# Altium footprint library PowerMeter.PcbLib: 55 footprints (part 2 of 4)
Each footprint in its own frame and in the unit in brackets; x right, y up, seen from the top. Pads: shape width x height; smd on the part's side, far side on the other; paste and mask are expansions set on the pad; w line width, h text height; cw(c..) or ccw(c..) is an arc to the next point about the centre after c.
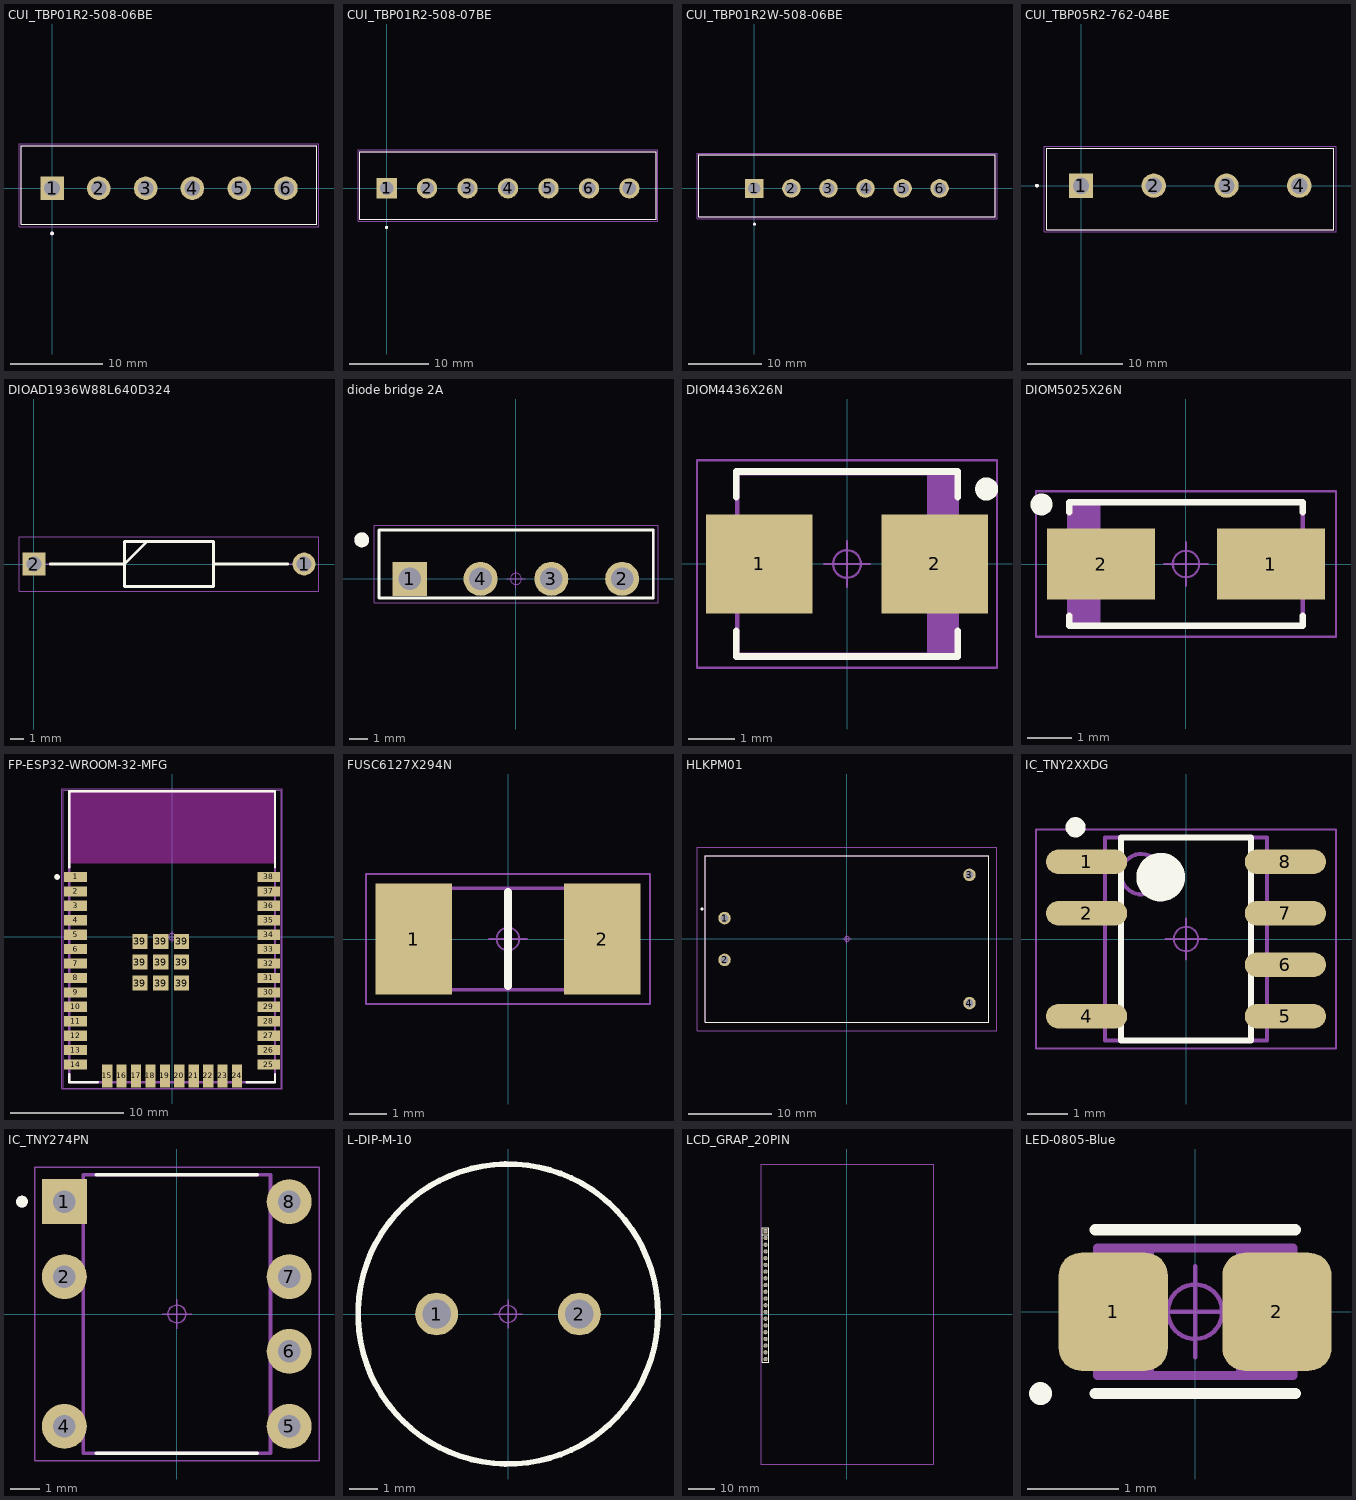
[diagram p1: the footprints below, top view; thin cyan lines are the x and y axes]

## CUI_TBP01R2-508-06BE [mm]
pads (6):
  rect 2.55x2.55 / inner round 2.55 / far side rect 2.55x2.55 hole 1.7: 1(0,0)
  round 2.55 hole 1.7: 2(5.08,0) 3(10.16,0) 4(15.24,0) 5(20.32,0) 6(25.4,0)
Top Overlay:
  circle w0.2: c0,-4.9 r0.1
  lines w0.127: -3.34,-3.9 -3.34,4.6 28.74,4.6 28.74,-3.9 -3.34,-3.9
Top Assembly:
  lines w0.127: -3.34,-3.9 28.74,-3.9 28.74,4.6 -3.34,4.6 -3.34,-3.9
  text "'.Designator'" at 5.2,-1.2 h1.52
Top Courtyard:
  lines w0.05: -3.59,-4.15 28.99,-4.15 28.99,4.85 -3.59,4.85 -3.59,-4.15
Mechanical 13:
  circle w0.2: c0,-4.9 r0.1
3D body "step_temp.STEP": height 12.1, standoff -3.9, extent -3.34,-3.9 28.74,4.6

## CUI_TBP01R2-508-07BE [mm]
pads (7):
  rect 2.55x2.55 / inner round 2.55 / far side rect 2.55x2.55 hole 1.7: 1(0,0)
  round 2.55 hole 1.7: 2(5.08,0) 3(10.16,0) 4(15.24,0) 5(20.32,0) 6(25.4,0) 7(30.48,0)
Top Overlay:
  circle w0.2: c0,-4.9 r0.1
  lines w0.127: -3.34,-3.9 33.82,-3.9 33.82,4.6 -3.34,4.6 -3.34,-3.9
Top Assembly:
  lines w0.127: -3.34,-3.9 33.82,-3.9 33.82,4.6 -3.34,4.6 -3.34,-3.9
  text "'.Designator'" at 9,-1 h1.52
Top Courtyard:
  lines w0.05: -3.59,-4.15 34.07,-4.15 34.07,4.85 -3.59,4.85 -3.59,-4.15
Mechanical 13:
  circle w0.2: c0,-4.9 r0.1
3D body "step_temp.STEP": height 12.1, standoff -3.9, extent -3.36,-3.85 33.8,4.65

## CUI_TBP01R2W-508-06BE [mm]
pads (6):
  rect 2.55x2.55 / inner round 2.55 / far side rect 2.55x2.55 hole 1.7: 1(0,0)
  round 2.55 hole 1.7: 2(5.08,0) 3(10.16,0) 4(15.24,0) 5(20.32,0) 6(25.4,0)
Top Overlay:
  circle w0.2: c0,-4.9 r0.1
  lines w0.127: -7.62,-3.9 -7.62,4.6 33.02,4.6 33.02,-3.9 -7.62,-3.9
Top Assembly:
  lines w0.127: -7.62,-3.9 33.02,-3.9 33.02,4.6 -7.62,4.6 -7.62,-3.9
  text "'.Designator'" at 5,-1 h1.52
Top Courtyard:
  lines w0.05: -7.87,-4.15 33.27,-4.15 33.27,4.85 -7.87,4.85 -7.87,-4.15
Mechanical 13:
  circle w0.2: c0,-4.9 r0.1
3D body "step_temp.STEP": height 12.1, standoff -3.9, extent -7.64,-3.9 33,4.6

## CUI_TBP05R2-762-04BE [mm]
height 12.5
pads (4):
  rect 2.55x2.55 / inner round 2.55 / far side rect 2.55x2.55 hole 1.7: 1(0,0)
  round 2.55 hole 1.7: 2(7.62,0) 3(15.24,0) 4(22.86,0)
Top Overlay:
  circle w0.2: c-4.62,0 r0.1
  lines w0.127: -3.6,-4.6 -3.6,3.9 26.46,3.9 26.46,-4.6 -3.6,-4.6
Top Assembly:
  lines w0.127: -3.6,-4.6 26.46,-4.6 26.46,3.9 -3.6,3.9 -3.6,-4.6
  text "'.Designator'" at 3.5,-1 h1.52
Top Courtyard:
  lines w0.05: -3.85,-4.85 26.71,-4.85 26.71,4.15 -3.85,4.15 -3.85,-4.85
Mechanical 13:
  circle w0.2: c-4.62,0 r0.1
3D body "step_temp.STEP": height 12, standoff -4, extent -3.66,-4.6 26.4,3.9

## DIOAD1936W88L640D324 [mm]
pads (2):
  round 1.65 hole 1.1: 1(19.4,0)
  rect 1.65x1.65 hole 1.1: 2(0,0)
Top Overlay:
  lines w0.2: 1.175,0 6.5,0 8.12,1.62 ; 12.9,0 18.225,0 ; 6.5,-1.62 12.9,-1.62 12.9,1.62 6.5,1.62 6.5,-1.62
Top Assembly:
  lines w0.1: 0,0 6.5,0 8.12,1.62 ; 12.9,0 19.4,0 ; 6.5,-1.62 6.5,1.62 12.9,1.62 12.9,-1.62 6.5,-1.62
  text "'.Designator'" at 1,-1.5 h1.52
Top Courtyard:
  lines w0.05: -1.075,-1.97 20.475,-1.97 20.475,1.97 -1.075,1.97 -1.075,-1.97
3D body "P6KE180A.stp": height 3.38, standoff -3.2, extent -0.38,-1.608 19.78,1.608

## diode bridge 2A [mm]
pads (4):
  rect 1.83x1.83 / inner round 1.83 / far side rect 1.83x1.83 hole 1.22: 1(-5.715,0)
  round 1.83 hole 1.22: 2(5.715,0) 3(1.905,0) 4(-1.905,0)
Top Overlay:
  circle w0.4: c-8.3,2.1 r0.2
  lines w0.15: -7.365,-1.03 -7.365,2.63 7.395,2.63 7.395,-1.03 -7.365,-1.03
Top Assembly:
  lines w0.1: -7.365,-1.03 -7.365,2.63 7.395,2.63 7.395,-1.03 -7.365,-1.03
  text "'.Designator'" at -4.8,-1.4 h1.52
Top Courtyard:
  lines w0.05: -7.615,-1.28 -7.615,2.88 7.645,2.88 7.645,-1.28 -7.615,-1.28
Top Component Center:
  circle w0.05: c0,0 r0.3
  lines w0.05: -0.5,0 0.5,0 ; 0,-0.5 0,0.5
Mechanical 13:
  circle w0.4: c-8.3,2.1 r0.2
3D body "step_temp.STEP": height 12.8, standoff -12.53, extent -7.25,-0.95 7.25,2.55

## DIOM4436X26N [mm] "Molded Diode, 2-Leads, Body 4.40x3.62mm, IPC Medium Density"
height 2.61
pads (2):
  rect 2.3x2.15 smd: 1(-1.9,0) 2(1.9,0)
Top Overlay:
  circle w0.25: c3.025,1.625 r0.125
  lines w0.15: -2.4,-1.45 -2.4,-2 2.4,-2 2.4,-1.45 ; -2.4,1.45 -2.4,2 2.4,2 2.4,1.45
Top Assembly:
  rectangle: 1.736,-1.97 2.375,1.97
  lines w0.1: -2.375,-1.97 -2.375,1.97 2.375,1.97 2.375,-1.97 -2.375,-1.97
  text "'.Designator'" at -2.5,-1.5 h1.52
Top Courtyard:
  lines w0.05: -3.25,-2.25 -3.25,2.25 3.25,2.25 3.25,-2.25 -3.25,-2.25
Top Component Center:
  circle w0.05: c0,0 r0.3
  lines w0.05: -0.5,0 0.5,0 ; 0,-0.5 0,0.5
3D body "SMBJ24A.STEP": height 2.65, standoff 0, extent -2.67,-1.813 2.67,1.813

## DIOM5025X26N [mm] "Molded Diode, 2-Leads, Body 5.00x2.50mm, IPC Medium Density"
height 2.55
pads (2):
  rect 2.45x1.6 smd: 1(1.925,0) 2(-1.925,0)
Top Overlay:
  circle w0.25: c-3.275,1.35 r0.125
  lines w0.15: -2.65,-1.175 -2.65,-1.4 2.65,-1.4 2.65,-1.175 ; -2.65,1.175 -2.65,1.4 2.65,1.4 2.65,1.175
Top Assembly:
  rectangle: -2.65,-1.4 -1.937,1.4
  lines w0.1: -2.65,-1.4 -2.65,1.4 2.65,1.4 2.65,-1.4 -2.65,-1.4
  text "'.Designator'" at -2.3,-1.4 h1.52
Top Courtyard:
  lines w0.05: -3.4,-1.65 -3.4,1.65 3.4,1.65 3.4,-1.65 -3.4,-1.65
Top Component Center:
  circle w0.05: c0,0 r0.3
  lines w0.05: -0.5,0 0.5,0 ; 0,-0.5 0,0.5
3D body "1SMA4742.STEP": height 2.5, standoff 0, extent -2.57,-1.28 2.57,1.28

## FP-ESP32-WROOM-32-MFG [mm]
pads (47):
  rect 2x0.9 smd paste+0 mask+0: 1(-8.5,5.26) 2(-8.5,3.99) 3(-8.5,2.72) 4(-8.5,1.45) 5(-8.5,0.18) 6(-8.5,-1.09) 7(-8.5,-2.36) 8(-8.5,-3.63) 9(-8.5,-4.9) 10(-8.5,-6.17) 11(-8.5,-7.44) 12(-8.5,-8.71) 13(-8.5,-9.98) 14(-8.5,-11.25) 25(8.5,-11.25) 26(8.5,-9.98) 27(8.5,-8.71) 28(8.5,-7.44) 29(8.5,-6.17) 30(8.5,-4.9) 31(8.5,-3.63) 32(8.5,-2.36) 33(8.5,-1.09) 34(8.5,0.18) 35(8.5,1.45) 36(8.5,2.72) 37(8.5,3.99) 38(8.5,5.26)
  rect 0.9x2 smd paste+0 mask+0: 15(-5.715,-12.25) 16(-4.445,-12.25) 17(-3.175,-12.25) 18(-1.905,-12.25) 19(-0.635,-12.25) 20(0.635,-12.25) 21(1.905,-12.25) 22(3.175,-12.25) 23(4.445,-12.25) 24(5.715,-12.25)
  rect 1.33x1.33 smd paste+0 mask+0: 39(-2.835,-4.075) 39(-2.835,-2.24) 39(-2.835,-0.405) 39(-1,-4.075) 39(-1,-2.24) 39(-1,-0.405) 39(0.835,-4.075) 39(0.835,-2.24) 39(0.835,-0.405)
Top Overlay:
  circle w0.25: c-10.125,5.26 r0.125
  lines w0.2: -9.05,-12.075 -9.05,-12.8 -6.54,-12.8 ; -9.05,6.085 -9.05,12.8 9.05,12.8 9.05,6.085 ; 6.54,-12.8 9.05,-12.8 9.05,-12.075
Keep-Out Layer:
  rectangle: -9,6.45 9,12.75
  rectangle: -9,6.45 9,12.75
Top Assembly:
  lines w0.1: -9.6,-13.35 9.6,-13.35 9.6,12.9 -9.6,12.9 -9.6,-13.35
  text "'.Designator'" at -4.9,-1.5 h1.52
Top Courtyard:
  lines w0.05: -9.7,-13.4 -9.7,13 9.7,13 9.7,-13.4 -9.7,-13.4
Top 3D Body:
  lines w0.2: -9.05,-12.8 9.05,-12.8 9.05,12.8 -9.05,12.8 -9.05,-12.8
Top Component Center:
  circle w0.05: c0,0 r0.3
  lines w0.05: -0.5,0 0.5,0 ; 0,-0.5 0,0.5
3D body "UNK_Espressif_Systems_ESP32-WROOM-32_eec.STEP": height 0.25, standoff 0, extent -9.6,-13.35 9.6,12.9

## FUSC6127X294N [mm]
pads (2):
  rect 2.02x2.95 smd: 1(-2.5,0) 2(2.5,0)
Top Overlay:
  lines w0.2: 0,-1.245 0,1.245
Top Assembly:
  lines w0.1: -3.05,-1.345 3.05,-1.345 3.05,1.345 -3.05,1.345 -3.05,-1.345
  text "'.Designator'" at -3.7,-1.5 h1.52
Top Courtyard:
  lines w0.05: -3.76,-1.725 3.76,-1.725 3.76,1.725 -3.76,1.725 -3.76,-1.725
Top Component Center:
  circle w0.05: c0,0 r0.3
  lines w0.05: -0.5,0 0.5,0 ; 0,-0.5 0,0.5
3D body "0451001.MRL.stp": height 2.94, standoff 0, extent -3.05,-1.345 3.05,1.345

## HLKPM01 [mm]
pads (4):
  round 1.5 hole 1: 1(-14.7,2.5) 2(-14.7,-2.5) 3(14.7,7.7) 4(14.7,-7.7)
Top Overlay:
  lines w0.15: -17,-10 -17,10 17,10 17,-10 -17,-10
  lines w0.2: -17.5,3.6 ccw(c-17.4,3.6) -17.3,3.6 ccw(c-17.4,3.6) -17.5,3.6
Top Assembly:
  lines w0.1: -17,-10 17,-10 17,10 -17,10 -17,-10
  text "'.Designator'" at -8,-1 h1.52
Top Courtyard:
  lines w0.05: -18,-11 18,-11 18,11 -18,11 -18,-11
Top Component Center:
  circle w0.05: c0,0 r0.3
  lines w0.05: -0.5,0 0.5,0 ; 0,-0.5 0,0.5
3D body "HLK-PM01.stp": height 15.05, standoff -5, extent -17,-10 17,10

## IC_TNY2XXDG [mm]
pads (7):
  oval 2x0.6 smd: 1(-2.45,1.905) 2(-2.45,0.635) 4(-2.45,-1.905) 5(2.45,-1.905) 6(2.45,-0.635) 7(2.45,0.635) 8(2.45,1.905)
Top Overlay:
  circle w0.6: c-0.625,1.525 r0.3
  circle w0.25: c-2.725,2.755 r0.125
  lines w0.15: -1.6,-2.5 1.6,-2.5 1.6,2.5 -1.6,2.5 -1.6,-2.5
Top Assembly:
  circle w0.1: c-1.1,1.6 r0.5
  lines w0.1: -2,-2.5 2,-2.5 2,2.5 -2,2.5 -2,-2.5
  text "'.Designator'" at -3.2,-1.6 h1.52
Top Courtyard:
  lines w0.05: -3.7,-2.7 3.7,-2.7 3.7,2.7 -3.7,2.7 -3.7,-2.7
Top Component Center:
  circle w0.05: c0,0 r0.3
  lines w0.05: -0.5,0 0.5,0 ; 0,-0.5 0,0.5
3D body "TNY284DG.STEP": height 1.75, standoff 0, extent -3,-2.45 3,2.45

## IC_TNY274PN [mil]
height 159.84
pads (7):
  rect 60x60 / inner round 60 / far side rect 60x60 hole 30: 1(-150,150)
  round 60 hole 30: 2(-150,50) 4(-150,-150) 5(150,-150) 6(150,-50) 7(150,50) 8(150,150)
Top Overlay:
  circle w7.87: c-206.69,150 r3.94
  lines w5: -107.48,-185.83 107.48,-185.83 ; -107.48,185.83 107.48,185.83
Top Assembly:
  lines w5: -125,-185.83 -125,185.83 125,185.83 125,-185.83 -125,-185.83
  text "'.Designator'" at -173.23,-66.93 h60
Top Courtyard:
  lines w1.97: -189.84,-195.67 -189.84,195.67 189.84,195.67 189.84,-195.67 -189.84,-195.67
Top Component Center:
  circle w1.97: c0,0 r11.81
  lines w1.97: -19.68,0 19.69,0 ; 0,-19.68 0,19.69
Mechanical 13:
  circle w7.87: c-206.69,150 r3.94
3D body "step_temp.STEP": height 160, standoff -140, extent -155.75,-185.75 155.75,185.75

## L-DIP-M-10 [mm] "THT Inductor, 2-Leads, Body 10,0  mm"
height 14.5
pads (2):
  round 1.5 hole 1: 1(-2.5,0) 2(2.5,0)
Top Overlay:
  circle w0.2: c0,0 r5.25
Top Assembly:
  circle w0.1: c0,0 r5.25
  text "'.Designator'" at -4.6,-1.7 h1.52
Top Component Center:
  circle w0.05: c0,0 r0.3
  lines w0.05: -0.5,0 0.5,0 ; 0,-0.5 0,0.5
3D body "744748xxxx.stp": height 14.1, standoff -3.45, extent -4.992,-5 4.992,5

## LCD_GRAP_20PIN [mm]
pads (20):
  rect 1.6x1.6 hole 1.1: 1(-30.734,31.242)
  round 1.6 hole 1.1: 2(-30.734,28.702) 3(-30.734,26.162) 4(-30.734,23.622) 5(-30.734,21.082) 6(-30.734,18.542) 7(-30.734,16.002) 8(-30.734,13.462) 9(-30.734,10.922) 10(-30.734,8.382) 11(-30.734,5.842) 12(-30.734,3.302) 13(-30.734,0.762) 14(-30.734,-1.778) 15(-30.734,-4.318) 16(-30.734,-6.858) 17(-30.734,-9.398) 18(-30.734,-11.938) 19(-30.734,-14.478) 20(-30.734,-17.018)
Top Overlay:
  lines w0.2: -32.004,29.972 -29.464,29.972 ; -32.004,-18.288 -32.004,32.512 -29.464,32.512 -29.464,30.607 -29.464,-18.288 -32.004,-18.288
Top Assembly:
  lines w0.254: -32.512,-56.642 32.512,-56.642 32.512,56.642 -32.512,56.642 -32.512,-56.642
  text ".Designator" at -5.842,0.254 h1.52
3D body "model.step": height 21.2, standoff 10.24, extent -35,-46.5 35,46.5

## LED-0805-Blue [mm]
pads (2):
  rrect41% 1.2x1.3 smd: 1(-0.9,0) 2(0.9,0)
Top Overlay:
  circle w0.15: c-1.7,-0.9 r0.05
  lines w0.125: -1.1,-0.9 1.1,-0.9 ; -1.1,0.9 1.1,0.9
Top Assembly:
  circle w0.15: c-1.7,-0.9 r0.05
  lines w0.1: -1.075,-0.7 -1.075,0.7 1.075,0.7 1.075,-0.7 -1.075,-0.7
  text "'.Designator'" at -4.217,-0.663 h1.6
Top Component Center:
  region: 1.1,0.7 0.45,0.7 0.45,-0.7 1.1,-0.7
  rectangle: -1.1,-0.7 -0.45,0.7
  lines w0.05: -1.1,-0.7 1.1,-0.7 1.1,0.7 -1.1,0.7 -1.1,-0.7
Top Component Outline:
  circle w0.05: c0,0 r0.3
  lines w0.05: -0.5,0 0.5,0 ; 0,-0.5 0,0.5
3D body "User Library-led_0805-blue.step": height 1.1, standoff 0, extent -1.01,-0.625 1.01,0.625